# Altium footprint library SON50P250X100_HS-9N.PcbLib: 1 footprints
Each footprint in its own frame and in the unit in brackets; x right, y up, seen from the top. Pads: shape width x height; smd on the part's side, far side on the other; paste and mask are expansions set on the pad; w line width, h text height; cw(c..) or ccw(c..) is an arc to the next point about the centre after c.
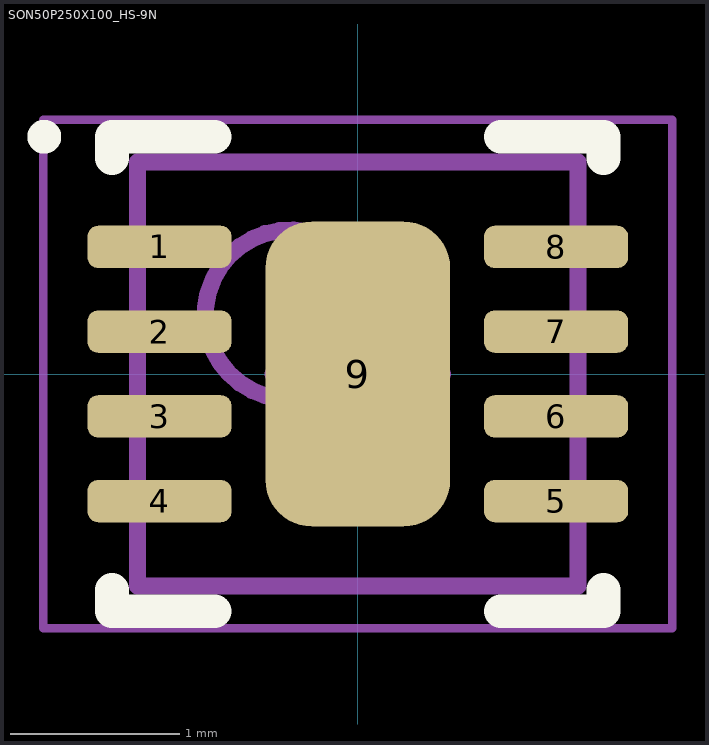
[diagram p0: the footprint, top view; thin cyan lines are the x and y axes]

## SON50P250X100_HS-9N [mm] "SON, 8-Leads, Body 2.45x2.50mm, Pitch 0.50mm, Thermal Pad 1.80x1.09mm, IPC Medium Density"
height 1
pads (9):
  rrect50% 0.85x0.25 smd mask+0.05: 1(-1.17,0.75) 2(-1.17,0.25) 3(-1.17,-0.25) 4(-1.17,-0.75) 5(1.17,-0.75) 6(1.17,-0.25) 7(1.17,0.25) 8(1.17,0.75)
  rrect50% 1.09x1.8 smd mask+0.05: 9(0,0)
Top Overlay:
  circle w0.1: c-1.85,1.4 r0.05
  lines w0.2: -1.45,-1.275 -1.45,-1.4 -0.845,-1.4 ; -1.45,1.275 -1.45,1.4 -0.845,1.4 ; 0.845,-1.4 1.45,-1.4 1.45,-1.275 ; 0.845,1.4 1.45,1.4 1.45,1.275
Top Assembly:
  circle w0.1: c-0.4,0.35 r0.5
  lines w0.1: -1.3,-1.25 -1.3,1.25 1.3,1.25 1.3,-1.25 -1.3,-1.25
Top Courtyard:
  lines w0.05: -1.855,-1.5 -1.855,1.5 1.855,1.5 1.855,-1.5 -1.855,-1.5
  lines w0.1: -0.5,0 0.5,0 ; 0,-0.5 0,0.5
3D body "SON50P250X100_HS-9N.step": height 1, standoff 0, extent -1.4,-1.25 1.4,1.25